# Altium footprint library mini_MELF_3.5mm.PcbLib: 1 footprints
Each footprint in its own frame and in the unit in brackets; x right, y up, seen from the top. Pads: shape width x height; smd on the part's side, far side on the other; paste and mask are expansions set on the pad; w line width, h text height; cw(c..) or ccw(c..) is an arc to the next point about the centre after c.
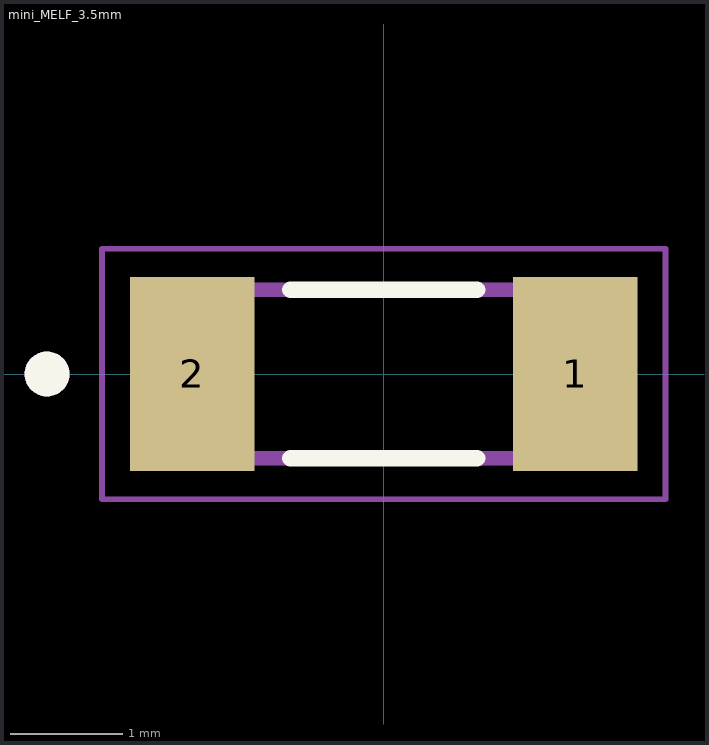
[diagram p0: the footprint, top view; thin cyan lines are the x and y axes]

## mini_MELF_3.5mm [mm]
pads (2):
  rect 1.11x1.73 smd: 1(1.705,0) 2(-1.705,0)
Top Overlay:
  circle w0.2: c-3,0 r0.1
  lines w0.15: -0.83,-0.75 0.83,-0.75 ; -0.83,0.75 0.83,0.75
Mechanical 13:
  circle w0.2: c-3,0 r0.1
  lines w0.127: -1.75,-0.75 1.75,-0.75 1.75,0.75 -1.75,0.75 -1.75,-0.75
Mechanical 15:
  lines w0.05: -2.51,-1.115 2.51,-1.115 2.51,1.115 -2.51,1.115 -2.51,-1.115
3D body "step_temp.STEP": height 1.6, standoff 0, extent -1.75,-0.8 1.75,0.8